# Altium schematic symbol library 1.8_TFT_14pin_ST7735_Rev.SchLib: 2 symbols
Pins are listed as number, name and electrical type; pins without a type are passive.

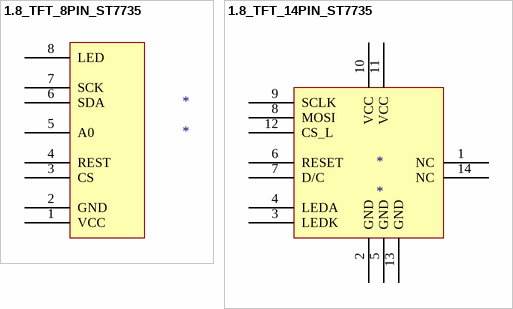
[diagram p0: symbols 1.8_TFT_8PIN_ST7735 to 1.8_TFT_14PIN_ST7735]

## 1.8_TFT_8PIN_ST7735
designator *
pins: 1 VCC, 2 GND, 3 CS, 4 REST, 5 A0, 6 SDA, 7 SCK, 8 LED

## 1.8_TFT_14PIN_ST7735
designator *
pins: 1 NC, 2 GND, 3 LEDK, 4 LEDA, 5 GND, 6 RESET, 7 D/C, 8 MOSI, 9 SCLK, 10 VCC, 11 VCC, 12 CS_L, 13 GND, 14 NC